# Altium schematic symbol library TMUX1574PWR.SchLib: 1 symbol
Pins are listed as number, name and electrical type; pins without a type are passive.

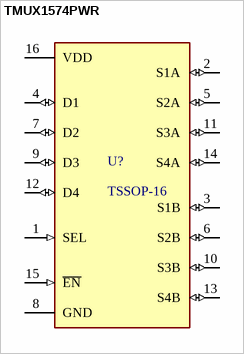
[diagram p0: symbol TMUX1574PWR]

## TMUX1574PWR
designator U?, comment TSSOP-16
footprint TSSOP-16-A (TSSOP-16 pacadge)
footprint TSSOP-16-B
footprint TSSOP-16-C
footprint TSSOP-16-D
pins: 1 SEL (in), 2 S1A (io), 3 S1B (io), 4 D1 (io), 5 S2A (io), 6 S2B (io), 7 D2 (io), 8 GND (power), 9 D3 (io), 10 S3B (io), 11 S3A (io), 12 D4 (io), 13 S4B (io), 14 S4A (io), 15 ~{EN} (in), 16 VDD (power)